# Altium footprint library PSOC.PcbLib: 4 footprints
Each footprint in its own frame and in the unit in brackets; x right, y up, seen from the top. Pads: shape width x height; smd on the part's side, far side on the other; paste and mask are expansions set on the pad; w line width, h text height; cw(c..) or ccw(c..) is an arc to the next point about the centre after c.
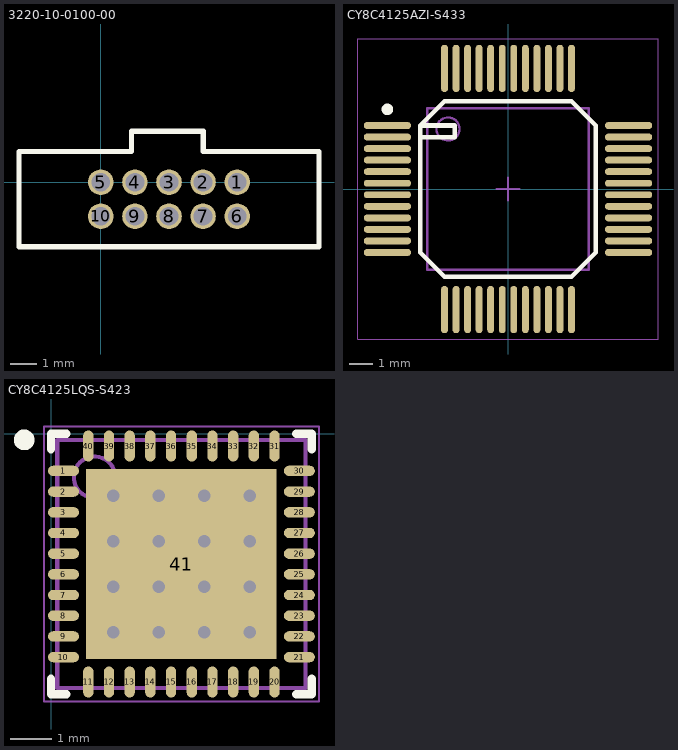
[diagram p0: the footprints below, top view; thin cyan lines are the x and y axes]

## 3220-10-0100-00 [mm] "JTAG SWD CONN 1.27mm pitch 10POS"
pads (10):
  round 0.95 hole 0.7: 1(5.08,0) 2(3.81,0) 3(2.54,0) 4(1.27,0) 5(0,0) 6(5.08,-1.27) 7(3.81,-1.27) 8(2.54,-1.27) 9(1.27,-1.27) 10(0,-1.27)
Top Overlay:
  lines w0.203: -3.048,-2.413 -3.048,1.143 1.143,1.143 1.143,1.905 3.81,1.905 3.81,1.143 8.128,1.143 8.128,-2.413 -3.048,-2.413

## 0022232051 [mm]

## CY8C4125AZI-S433 [mm] "CQFP, 48-Leads, Body 11.70x11.70mm, Pitch 0.50mm, IPC Medium Density"
height 1.4
pads (48):
  oval 2.05x0.3 smd: 1(-5.225,2.75) 2(-5.225,2.25) 3(-5.225,1.75) 4(-5.225,1.25) 5(-5.225,0.75) 6(-5.225,0.25) 7(-5.225,-0.25) 8(-5.225,-0.75) 9(-5.225,-1.25) 10(-5.225,-1.75) 11(-5.225,-2.25) 12(-5.225,-2.75) 25(5.225,-2.75) 26(5.225,-2.25) 27(5.225,-1.75) 28(5.225,-1.25) 29(5.225,-0.75) 30(5.225,-0.25) 31(5.225,0.25) 32(5.225,0.75) 33(5.225,1.25) 34(5.225,1.75) 35(5.225,2.25) 36(5.225,2.75)
  oval 0.3x2.05 smd: 13(-2.75,-5.225) 14(-2.25,-5.225) 15(-1.75,-5.225) 16(-1.25,-5.225) 17(-0.75,-5.225) 18(-0.25,-5.225) 19(0.25,-5.225) 20(0.75,-5.225) 21(1.25,-5.225) 22(1.75,-5.225) 23(2.25,-5.225) 24(2.75,-5.225) 37(2.75,5.225) 38(2.25,5.225) 39(1.75,5.225) 40(1.25,5.225) 41(0.75,5.225) 42(0.25,5.225) 43(-0.25,5.225) 44(-0.75,5.225) 45(-1.25,5.225) 46(-1.75,5.225) 47(-2.25,5.225) 48(-2.75,5.225)
Top Overlay:
  circle w0.25: c-5.225,3.45 r0.125
  lines w0.2: -3.8,2.25 -2.3,2.25 -2.3,2.75 -3.8,2.75 ; -3.8,2.75 -3.8,-2.75 -2.75,-3.8 2.75,-3.8 3.8,-2.75 3.8,2.75 2.75,3.8 -2.75,3.8 -3.8,2.75
Mechanical 13:
  circle w0.1: c-2.6,2.6 r0.5
  lines w0.1: -3.5,-3.5 -3.5,3.5 3.5,3.5 3.5,-3.5 -3.5,-3.5
Mechanical 15:
  lines w0.05: -6.5,-6.5 -6.5,6.5 6.5,6.5 6.5,-6.5 -6.5,-6.5
  lines w0.1: -0.5,0 0.5,0 ; 0,-0.5 0,0.5
3D body: height 1.4, standoff 0.05, extent -3.5,-3.5 3.5,3.5

## CY8C4125LQS-S423 [mm] "QFN 40 pin PSoC 4100S"
pads (41):
  oval 0.75x0.25 smd: 1(0.3,-0.9) 2(0.3,-1.4) 3(0.3,-1.9) 4(0.3,-2.4) 5(0.3,-2.9) 6(0.3,-3.4) 7(0.3,-3.9) 8(0.3,-4.4) 9(0.3,-4.9) 10(0.3,-5.4) 21(6,-5.4) 22(6,-4.9) 23(6,-4.4) 24(6,-3.9) 25(6,-3.4) 26(6,-2.9) 27(6,-2.4) 28(6,-1.9) 29(6,-1.4) 30(6,-0.9)
  oval 0.25x0.75 smd: 11(0.9,-6) 12(1.4,-6) 13(1.9,-6) 14(2.4,-6) 15(2.9,-6) 16(3.4,-6) 17(3.9,-6) 18(4.4,-6) 19(4.9,-6) 20(5.4,-6) 31(5.4,-0.3) 32(4.9,-0.3) 33(4.4,-0.3) 34(3.9,-0.3) 35(3.4,-0.3) 36(2.9,-0.3) 37(2.4,-0.3) 38(1.9,-0.3) 39(1.4,-0.3) 40(0.9,-0.3)
  rect 4.6x4.6 smd: 41(3.15,-3.15)
via 1.5,-1.5 diameter 0.61 hole 0.305
via 2.6,-1.5 diameter 0.61 hole 0.305
via 3.7,-1.5 diameter 0.61 hole 0.305
via 4.8,-1.5 diameter 0.61 hole 0.305
via 1.5,-2.6 diameter 0.61 hole 0.305
via 2.6,-2.6 diameter 0.61 hole 0.305
via 3.7,-2.6 diameter 0.61 hole 0.305
via 4.8,-2.6 diameter 0.61 hole 0.305
via 1.5,-3.7 diameter 0.61 hole 0.305
via 2.6,-3.7 diameter 0.61 hole 0.305
via 3.7,-3.7 diameter 0.61 hole 0.305
via 4.8,-3.7 diameter 0.61 hole 0.305
via 1.5,-4.8 diameter 0.61 hole 0.305
via 2.6,-4.8 diameter 0.61 hole 0.305
via 3.7,-4.8 diameter 0.61 hole 0.305
via 4.8,-4.8 diameter 0.61 hole 0.305
Top Overlay:
  circle w0.25: c-0.65,-0.15 r0.125
  lines w0.2: 0,-5.925 0,-6.3 0.375,-6.3 ; 0,-0.375 0,0 0.375,0 ; 5.925,-6.3 6.3,-6.3 6.3,-5.925 ; 5.925,0 6.3,0 6.3,-0.375
Mechanical 13:
  circle w0.1: c1.05,-1.05 r0.5
  lines w0.1: 0.15,-6.15 0.15,-0.15 6.15,-0.15 6.15,-6.15 0.15,-6.15
Mechanical 15:
  lines w0.05: -0.175,-6.475 -0.175,0.175 6.475,0.175 6.475,-6.475 -0.175,-6.475
  lines w0.1: 2.65,-3.15 3.65,-3.15 ; 3.15,-3.65 3.15,-2.65
3D body: height 0.6, standoff 0.01, extent 0.15,-6.15 6.15,-0.15